# Altium schematic symbol library Discrete_Capacitor.SchLib: 76 symbols
Pins are listed as number, name and electrical type; pins without a type are passive.

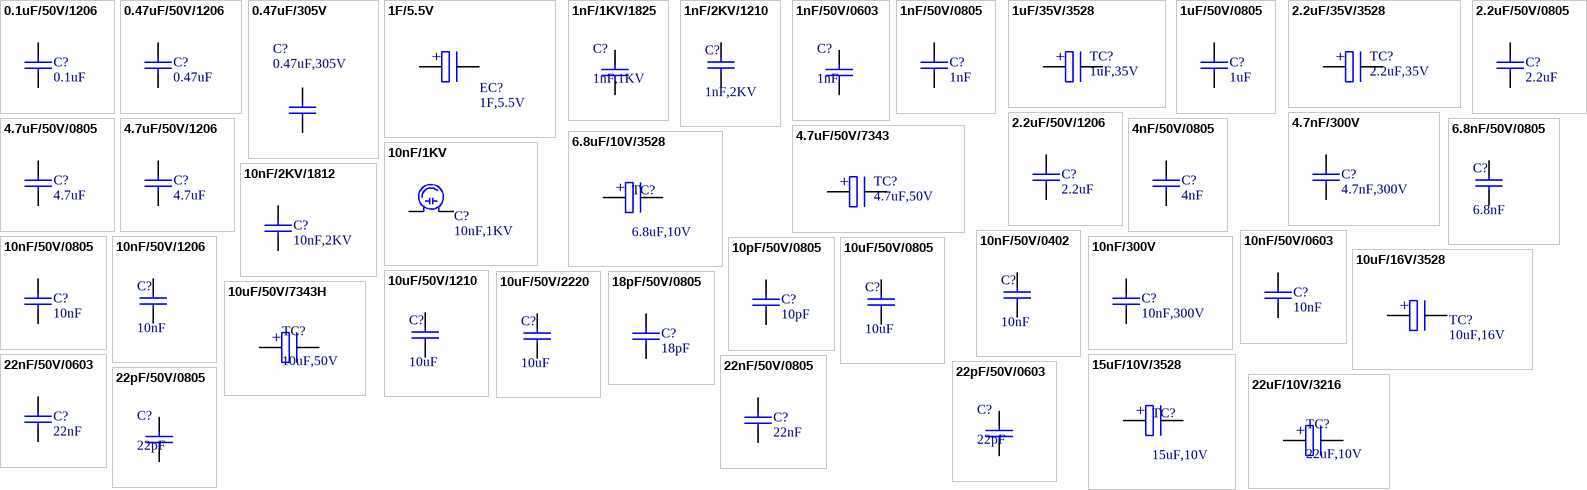
[diagram p0: symbols 0.1uF/50V/1206 to 22uF/10V/3216]

## 0.1uF/50V/1206
designator C?, comment 0.1uF
普通电容, 0.1uF, X7R, 50V, 10％, 1206; Manufacturer: TDK; Name: 普通电容; Ordering NO.: 0.1uF
footprint C1206 (Chip Capacitor, Body 3.2x1.6mm, IPC Medium Density)
pins: 1, 2

## 0.47uF/50V/1206
designator C?, comment 0.47uF
普通电容, 0.47uF, X7R, 50V, 10％, 1206; Manufacturer: TDK; Name: 普通电容; Ordering NO.: 0.47uF
footprint C1206 (Chip Capacitor, Body 3.2x1.6mm, IPC Medium Density)
pins: 1, 2

## 0.47uF/305V
designator C?, comment 0.47uF,305V
安规电容-X电容,0.47uF,305VAC,直插; Manufacturer: Epcos; Ordering NO.: B32933B3474K; Name: 安规电容- X电容
footprint CAP-22.5
pins: 1, 2

## 1F/5.5V
designator EC?, comment 1F,5.5V
铝电解电容,1F,20%,5.5V,直插; Manufacturer: KAMCAP; Ordering NO.: SCCB5R5105C; Name: 铝电解电容
footprint CAPC-5.08 (超级电容直插封装,直径800mil,pitch=200mil)
pins: 1 P, 2 P
text: +

## 1nF/1KV/1825
designator C?, comment 1nF,1KV
高压电容, 1nF, 10%, 1KV, 1825, C0G; Manufacturer: AVX; tips: 地线间EMC电容,体积大; 物料替代型号: 1825AC102JAT1A(5%); Ordering NO.: 1825AC102KAT1A; Tips: 1825,1000V,C0G,10%,有铅,; Name: 高压电容; Price: 0.51
footprint C1825 (贴片电容1825, 180 x 250 mil)
pins: 1, 2

## 1nF/2KV/1210
designator C?, comment 1nF,2KV
高压电容, 1nF, X7R, 2KV, 10％, 1210; Manufacturer: Syfer Technology; Ordering NO.: 1210Y2K00102KXT; Name: 高压电容
footprint C1210 (公制名称为3225)
pins: 1, 2

## 1nF/50V/0603
designator C?, comment 1nF
高频电容, 1nF, 5%, 50V, 0603, C0G; Manufacturer: AVX; Ordering NO.: 06035A102JAT2A; tips: 贴片0603,102%5/50V,C0G; 物料替代型号: 村田; Tips: 虽为高频电容,做EMC也是不错的; Name: 高频电容; Price: 0.02
footprint C0603 (Chip Capacitor, Body 1.6x0.8mm, IPC Medium Density)
pins: 1, 2

## 1nF/50V/0805
designator C?, comment 1nF
普通电容, 1nF, X7R, 50V, 10％, 0805; Manufacturer: TDK; Ordering NO.: 1nF; Name: 普通电容
footprint C0805 (Chip Capacitor, Body 2.0x1.3mm, IPC Medium Density)
pins: 1, 2

## 1uF/35V/3528
designator TC?, comment 1uF,35V
钽电容, 1uF, 35V, 10％, 3528; Manufacturer: AVX; Name: 钽电容; Ordering NO.: 1uF
footprint C3528 (B,Chip Capacitor, Body 3.5x2.8mm)
pins: 1 P, 2 P
text: +

## 1uF/50V/0805
designator C?, comment 1uF
普通电容, 1uF, X7R, 50V, 10％, 0805; Manufacturer: TDK; Ordering NO.: 1uF; Name: 普通电容
footprint C0805 (Chip Capacitor, Body 2.0x1.3mm, IPC Medium Density)
pins: 1, 2

## 2.2uF/35V/3528
designator TC?, comment 2.2uF,35V
钽电容, 2.2uF, 35V, 10％, 3528; Manufacturer: AVX; Name: 钽电容; Ordering NO.: 2.2uF
footprint C3528 (B,Chip Capacitor, Body 3.5x2.8mm)
pins: 1 P, 2 P
text: +

## 2.2uF/50V/0805
designator C?, comment 2.2uF
普通电容, 2.2uF, X7R, 50V, 10％, 0805; Manufacturer: TDK; Name: 普通电容; Ordering NO.: 2.2uF
footprint C0805 (Chip Capacitor, Body 2.0x1.3mm, IPC Medium Density)
pins: 1, 2

## 2.2uF/50V/1206
designator C?, comment 2.2uF
普通电容, 2.2uF, X7R, 50V, 10％, 1206; Manufacturer: TDK; Name: 普通电容; Ordering NO.: 2.2uF
footprint C1206 (Chip Capacitor, Body 3.2x1.6mm, IPC Medium Density)
pins: 1, 2

## 4.7nF/300V
designator C?, comment 4.7nF,300V
安规电容-Y电容,4.7nF,300V,10%,直插; Manufacturer: Epcos; Ordering NO.: B32021A3472K; Tips: 薄膜电容，用于EMI抑制; Name: 安规电容-Y电容
footprint CAP-10 (长*宽为13*5)
pins: 1, 2

## 4.7uF/50V/0805
designator C?, comment 4.7uF
普通电容, 4.7uF, X7R, 50V, 10％, 0805; Manufacturer: TDK; Name: 普通电容; Ordering NO.: 4.7uF
footprint C0805 (Chip Capacitor, Body 2.0x1.3mm, IPC Medium Density)
pins: 1, 2

## 4.7uF/50V/1206
designator C?, comment 4.7uF
普通电容, 4.7uF, X7R, 50V, 10％, 1206; Manufacturer: TDK; Name: 普通电容; Ordering NO.: 4.7uF
footprint C1206
pins: 1, 2

## 4.7uF/50V/7343
designator TC?, comment 4.7uF,50V
钽电容, 4.7uF, 50V, 10％, 7343; Manufacturer: AVX; Name: 钽电容; Ordering NO.: 4.7uF
footprint C7343 (D,Chip Capacitor, Body7.3x4.3mm)
pins: 1 P, 2 P
text: +

## 4nF/50V/0805
designator C?, comment 4nF
普通电容, 4nF, X7R, 50V, 10％, 0805; Manufacturer: TDK; Name: 普通电容; Ordering NO.: 4nF
footprint C0805 (Chip Capacitor, Body 2.0x1.3mm, IPC Medium Density)
pins: 1, 2

## 6.8nF/50V/0805
designator C?, comment 6.8nF
普通电容, 6.8nF, X7R, 50V, 10％, 0805; Manufacturer: TDK; Ordering NO.: 6.8nF; Name: 普通电容
footprint C0805
pins: 1, 2

## 6.8uF/10V/3528
designator TC?, comment 6.8uF,10V
钽电容, 6.8uF,10V, 10％, 3528; Manufacturer: AVX; Ordering NO.: TPSB685K010R1300; Name: 钽电容
footprint C3528 (B封装,极性电容, Body 3.5x2.8mm)
pins: 1 P, 2 P
text: +

## 10nF/1KV
designator C?, comment 10nF,1KV
高压瓷片电容, 10nF, 1000V,直插; Manufacturer: TDK; Tips: 高压瓷片电容10nF/1KV; Name: 高压瓷片电容; 物料替代型号: n/a; Ordering NO.: 10nF; Price: 0.8
footprint CAP-5 (Footprint not found)
pins: 1, 2

## 10nF/2KV/1812
designator C?, comment 10nF,2KV
高压电容, 10nF, 2KV, 1812; Manufacturer: AVX; Ordering NO.: 1812GC103KAT3A; Name: 高压电容
footprint C1812 (Chip Capacitor, 2-Leads, Body 4.5x3.2mm, IPC Medium Density)
pins: 1, 2

## 10nF/50V/0402
designator C?, comment 10nF
普通电容, 10nF, X7R, 50V, 10％, 0402; Manufacturer: TDK; Ordering NO.: 10nF; Name: 普通电容
footprint C0402-BGA
pins: 1, 2

## 10nF/50V/0603
designator C?, comment 10nF
普通电容, 10nF, X7R, 50V, 10％, 0603; Manufacturer: TDK; Ordering NO.: 10nF; Name: 普通电容
footprint C0603 (Chip Capacitor, Body 1.6x0.8mm, IPC Medium Density)
pins: 1, 2

## 10nF/50V/0805
designator C?, comment 10nF
普通电容, 10nF, X7R, 50V, 10％, 0805; Manufacturer: TDK; Ordering NO.: 10nF; Name: 普通电容
footprint C0805 (Chip Capacitor, Body 2.0x1.3mm, IPC Medium Density)
pins: 1, 2

## 10nF/50V/1206
designator C?, comment 10nF
普通电容, 10nF, X7R, 50V, 10％, 1206; Manufacturer: TDK; Name: 普通电容; Ordering NO.: 10nF
footprint C1206 (Chip Capacitor, Body 3.2x1.6mm, IPC Medium Density)
pins: 1, 2

## 10nF/300V
designator C?, comment 10nF,300V
安规电容-Y电容,10nF,300V,10%,直插; Manufacturer: Epcos; Ordering NO.: B32022A3103K; Tips: 薄膜电容，用于EMI抑制; Name: 安规电容-Y电容
footprint CAP-15 (长*宽*高为18*5*10.5)
pins: 1, 2

## 10pF/50V/0805
designator C?, comment 10pF
普通电容, 10pF, X7R, 50V, 10％, 0805; Manufacturer: TDK; Name: 普通电容; Ordering NO.: 10pF
footprint C0805 (Chip Capacitor, Body 2.0x1.3mm, IPC Medium Density)
pins: 1, 2

## 10uF/16V/3528
designator TC?, comment 10uF,16V
钽电容, 10uF, 16V, 10％, 3528; Manufacturer: AVX; Ordering NO.: TPSB106K016R0500; Name: 钽电容
footprint C3528 (B,Chip Capacitor, Body 3.5x2.8mm)
pins: 1 P, 2 P
text: +

## 10uF/50V/0805
designator C?, comment 10uF
普通电容, 10uF, X7R, 50V, 10％, 0805; Manufacturer: TDK; Name: 普通电容; Ordering NO.: 10uF
footprint C0805 (Chip Capacitor, Body 2.0x1.3mm, IPC Medium Density)
pins: 1, 2

## 10uF/50V/1210
designator C?, comment 10uF
普通电容, 10uF, X7S, 50V, 10％, 1210; Manufacturer: TDK; Ordering NO.: C3225X7S1H106KT000N; Name: 普通电容
footprint C1210 (贴片电容有极性1210,138x110mil)
pins: 1, 2

## 10uF/50V/2220
designator C?, comment 10uF
普通电容, 10uF, X7R, 50V, 10％, 2220; Manufacturer: TDK; Name: 普通电容; Ordering NO.: 10uF
footprint C2220
pins: 1, 2

## 10uF/50V/7343H
designator TC?, comment 10uF,50V
钽电容, 10uF, 50V, 7343H; Manufacturer: AVX; Ordering NO.: TPSE106M050R0500; Tips: 贴片极性去耦滤波电容,2917,E型,10uF%20/50V,500mR@100KHz,(钽/电解); 物料替代型号: TPSE106M050R0400,村田; Name: 钽电容; Price: 2.01
footprint C7343H (E封装,极性电容, Body7.3x4.3mm)
pins: 1 P, 2 P
text: +

## 15uF/10V/3528
designator TC?, comment 15uF,10V
钽电容, 15uF,10V, 10％, 3528; Manufacturer: AVX; Ordering NO.: TPSB156K010R0450; Name: 钽电容
footprint C3528 (B封装,极性电容, Body 3.5x2.8mm)
pins: 1 P, 2 P
text: +

## 18pF/50V/0805
designator C?, comment 18pF
普通电容, 18pF, X7R, 50V, 10％, 0805; Manufacturer: TDK; Name: 普通电容; Ordering NO.: 18pF
footprint C0805 (Chip Capacitor, Body 2.0x1.3mm, IPC Medium Density)
pins: 1, 2

## 22nF/50V/0603
designator C?, comment 22nF
普通电容, 22nF, X7R, 50V, 10％, 0603; Manufacturer: TDK; Name: 普通电容; Ordering NO.: 22nF
footprint C0603 (Chip Capacitor, Body 1.6x0.8mm, IPC Medium Density)
pins: 1, 2

## 22nF/50V/0805
designator C?, comment 22nF
普通电容, 22nF, X7R, 50V, 10％, 0805; Manufacturer: TDK; Name: 普通电容; Ordering NO.: 22nF
footprint C0805 (Chip Capacitor, Body 2.0x1.3mm, IPC Medium Density)
pins: 1, 2

## 22pF/50V/0603
designator C?, comment 22pF
高频电容, 22pF, 50V, 0603, C0G; Manufacturer: AVX; Ordering NO.: 06035A220JAT2A; tips: 贴片0603,22pF%5/50V,C0G; 物料替代型号: 村田; Tips: 虽为高频电容,做EMC也是不错的; Name: 高频电容; Price: 0.02
footprint C0603 (Chip Capacitor, Body 1.6x0.8mm, IPC Medium Density)
pins: 1, 2

## 22pF/50V/0805
designator C?, comment 22pF
高频电容, 22pF, 50V, 0805, C0G; Manufacturer: AVX; Ordering NO.: 08055A220JAT2A; 物料替代型号: 村田; tips: 虽为高频电容,做EMC也是不错的; Tips: 贴片0805,22pF%5/50V,C0G; Name: 高频电容; Price: 0.02
footprint C0805 (Chip Capacitor, Body 2.0x1.3mm, IPC Medium Density)
pins: 1, 2

## 22uF/10V/3216
designator TC?, comment 22uF,10V
钽电容, 22uF, 10V, 3216, 900mR@100KH; Manufacturer: AVX; Ordering NO.: TPSA226K010R0900; Tips: 贴片极性去耦滤波电容1206,22uF%10/10V,900mR@100KHz,(钽/电解); 物料替代型号: TPSA336K010R0700,村田; Name: 钽电容; Price: 0.20
footprint C3216 (A封装,极性电容, Body 3.2x1.6mm)
pins: 1 P, 2 P
text: +

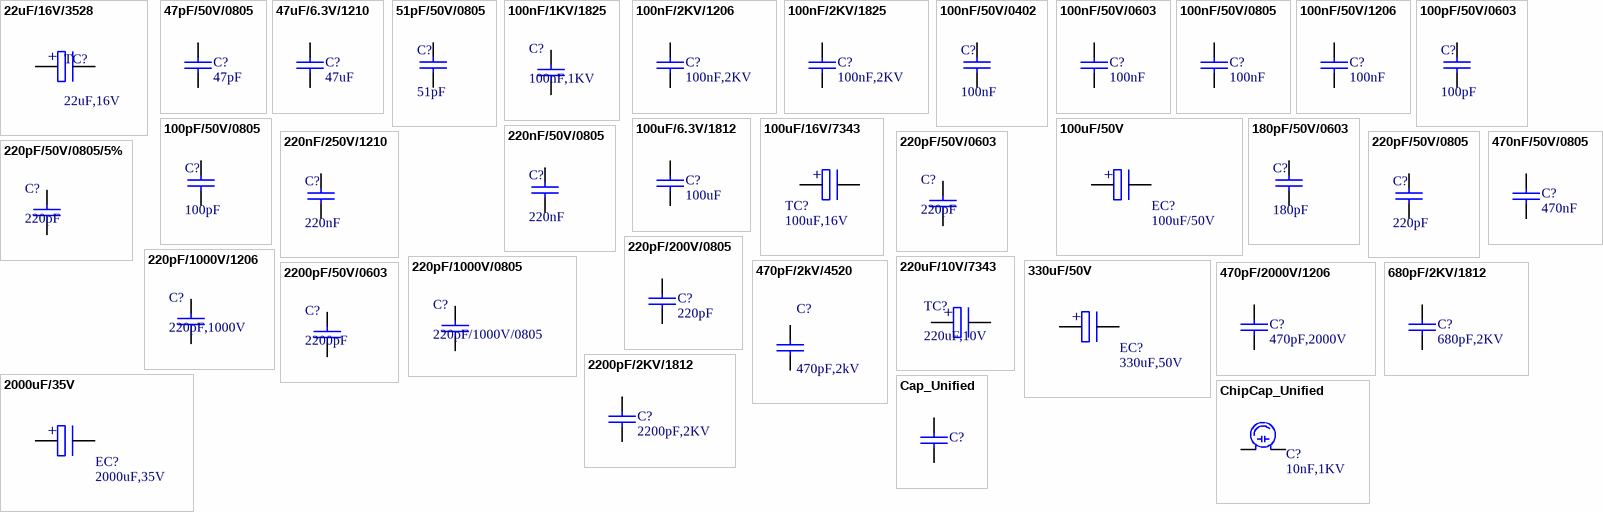
[diagram p1: symbols 22uF/16V/3528 to ChipCap_Unified]

## 22uF/16V/3528
designator TC?, comment 22uF,16V
钽电容,22uF,16V, 10％, 3528; Manufacturer: AVX; Ordering NO.: TPSB226K016R0400; Name: 钽电容
footprint C3528 (B封装,极性电容, Body 3.5x2.8mm)
pins: 1 P, 2 P
text: +

## 47pF/50V/0805
designator C?, comment 47pF
普通电容, 47pF, X7R, 50V, 10％, 0805; Manufacturer: TDK; Name: 普通电容; Ordering NO.: 47pF
footprint C0805 (Chip Capacitor, Body 2.0x1.3mm, IPC Medium Density)
pins: 1, 2

## 47uF/6.3V/1210
designator C?, comment 47uF
普通电容, 47uF, X5R, 6.3V, 1210; Manufacturer: TDK; Name: 普通电容; Ordering NO.: 47uF
footprint C1210 (公制名称为3225)
pins: 1, 2

## 51pF/50V/0805
designator C?, comment 51pF
普通电容, 51pF, X7R, 50V, 10％, 0805; Manufacturer: TDK; Name: 普通电容; Ordering NO.: 51pF
footprint C0805 (Chip Capacitor, Body 2.0x1.3mm, IPC Medium Density)
pins: 1, 2

## 100nF/1KV/1825
designator C?, comment 100nF,1KV
高压电容, 100nF, 10%, 1000V, 1825, C0G, 有铅; Manufacturer: AVX; tips: 地线间EMC电容,体积大; 物料替代型号: 1825AC104JAT1A(5%); Ordering NO.: 1825AC104KAT1A; Tips: 1825,1000V,C0G,10%,有铅,; Name: 高压电容; Price: 0.51
footprint C1825 (贴片电容1825, 180 x 250 mil)
pins: 1, 2

## 100nF/2KV/1206
designator C?, comment 100nF,2KV
高压电容, 100nF, 2KV, 10％, 1206; Manufacturer: TDK; Ordering NO.: CGA5L4X7T2W104K160AA; Name: 高压电容
footprint C1206 (Chip Capacitor, Body 3.2x1.6mm, IPC Medium Density)
pins: 1, 2

## 100nF/2KV/1825
designator C?, comment 100nF,2KV
高压电容, 100nF, 2KV, 10％, 1825; Manufacturer: TDK; Name: 高压电容; Ordering NO.: 100nF
footprint C1825 (贴片电容1825, 180 x 250 mil)
pins: 1, 2

## 100nF/50V/0402
designator C?, comment 100nF
普通电容, 100nF, X7R, 50V, 10％, 0402; Manufacturer: TDK; Ordering NO.: 100nF; Name: 普通电容
footprint C0402-BGA
pins: 1, 2

## 100nF/50V/0603
designator C?, comment 100nF
普通电容, 100nF, X7R, 50V, 10％, 0603; Manufacturer: TDK; Ordering NO.: 100nF; Name: 普通电容
footprint C0603
pins: 1, 2

## 100nF/50V/0805
designator C?, comment 100nF
普通电容, 100nF, X7R, 50V, 10％, 0805; Manufacturer: TDK; Ordering NO.: 100nF; Name: 普通电容
footprint C0805 (Chip Capacitor, Body 2.0x1.3mm, IPC Medium Density)
pins: 1, 2

## 100nF/50V/1206
designator C?, comment 100nF
普通电容, 100nF, X7R, 50V, 10％, 1206; Manufacturer: TDK; Name: 普通电容; Ordering NO.: 100nF
footprint C1206 (Chip Capacitor, Body 3.2x1.6mm, IPC Medium Density)
pins: 1, 2

## 100pF/50V/0603
designator C?, comment 100pF
普通电容, 100pF, X7R, 50V, 10％, 0603; Manufacturer: TDK; Ordering NO.: 100pF; Name: 普通电容
footprint C0603
pins: 1, 2

## 100pF/50V/0805
designator C?, comment 100pF
普通电容, 100pF, X7R, 50V, 10％, 0805; Manufacturer: TDK; Ordering NO.: 100pF; Name: 普通电容
footprint C0805 (Chip Capacitor, Body 2.0x1.3mm, IPC Medium Density)
pins: 1, 2

## 100uF/6.3V/1812
designator C?, comment 100uF
普通电容, 100uF, X5R, 6.3V, 1812; Manufacturer: TDK; Name: 普通电容; Ordering NO.: 100uF
footprint C1812
pins: 1, 2

## 100uF/16V/7343
designator TC?, comment 100uF,16V
钽电容, 100uF, 16V, 10%,7343; Manufacturer: AVX; Ordering NO.: TPSD107K016R0060; Name: 钽电容
footprint C7343 (D,Chip Capacitor, Body7.3x4.3mm)
pins: 1 P, 2 P
text: +

## 100uF/50V
designator EC?
铝电解电容,100uF,20%,50V,表贴; Manufacturer: Panasonic; Ordering NO.: EEHZA1H101P; Name: 铝电解电容
footprint CP1210 (G,Conductive Polymer Hybrid Aluminum Electrolytic Capacitors,12X10.3X10.5mm)
pins: 1 P, 2 P
text: +

## 180pF/50V/0603
designator C?, comment 180pF
普通电容,180pF, 5％,50V, 0603,C0G; Manufacturer: TDK; Name: 普通电容; Ordering NO.: 180pF
footprint C0603 (Chip Capacitor, Body 1.6x0.8mm, IPC Medium Density)
pins: 1, 2

## 220nF/50V/0805
designator C?, comment 220nF
普通电容, 220nF, X7R, 50V, 10％, 0805; Manufacturer: TDK; Name: 普通电容; Ordering NO.: 220nF
footprint C0805 (Chip Capacitor, Body 2.0x1.3mm, IPC Medium Density)
pins: 1, 2

## 220nF/250V/1210
designator C?, comment 220nF
普通电容, 220nF, X5R, 250V, 10％, 1210; Manufacturer: TDK; Name: 普通电容; Ordering NO.: 220nF
footprint C1210 (公制名称为3225)
pins: 1, 2

## 220pF/50V/0603
designator C?, comment 220pF
高频电容, 220pF, 5%, 50V, 0603, C0G; Manufacturer: AVX; Ordering NO.: 06035A221JAT2A; tips: 贴片0603,220pF%5/50V,C0G; 物料替代型号: 村田; Tips: 虽为高频电容,做EMC也是不错的; Name: 高频电容; Price: 0.02
footprint C0603 (Chip Capacitor, Body 1.6x0.8mm, IPC Medium Density)
pins: 1, 2

## 220pF/50V/0805
designator C?, comment 220pF
普通电容, 220pF, X7R, 50V, 10％, 0805; Manufacturer: TDK; Name: 普通电容; Ordering NO.: 220pF
footprint C0805 (Footprint not found)
pins: 1, 2

## 220pF/50V/0805/5%
designator C?, comment 220pF
高频电容, 220pF, 5%, 50V, 0805, C0G; Manufacturer: AVX; Ordering NO.: 08055A221JAT2A; tips: 贴片0805,220pF%5/50V,C0G; 物料替代型号: 村田; Tips: 虽为高频电容,做EMC也是不错的; Name: 高频电容; Price: 0.02
footprint C0805 (Chip Capacitor, Body 2.0x1.3mm, IPC Medium Density)
pins: 1, 2

## 220pF/200V/0805
designator C?, comment 220pF
高频电容, 220pF, 5%, 200V, 0805, C0G; Manufacturer: AVX; Ordering NO.: 08052A221JAT2A; tips: 贴片0805,220pF%5/200V,C0G; 物料替代型号: 村田; Tips: 虽为高频电容,做EMC也是不错的; Name: 高频电容; Price: 0.02
footprint C0805 (Chip Capacitor, Body 2.0x1.3mm, IPC Medium Density)
pins: 1, 2

## 220pF/1000V/0805
designator C?
高压电容, 220pF, X7R, 5%, 1000V, 0805; Manufacturer: AVX; Ordering NO.: 0805AA221JAT1A; Tips: 小型220pF EMC电容; Price: 0.50; Name: 高压电容
footprint C0805 (Chip Capacitor, Body 2.0x1.3mm, IPC Medium Density)
pins: 1, 2

## 220pF/1000V/1206
designator C?, comment 220pF,1000V
高压电容, 220pF, X7R, 5%, 1000V, 1206; Manufacturer: AVX; 物料替代型号: 1206AA221JAT1A; Tips: EMC电容,体积大; Price: 0.50; Name: 高压电容; Ordering NO.: 220pF
footprint C1206 (Chip Capacitor, Body 3.2x1.6mm, IPC Medium Density)
pins: 1, 2

## 220uF/10V/7343
designator TC?, comment 220uF,10V
钽电容, 220uF, 20％, 10V, 7343; Manufacturer: SANYO/Panasonic; Ordering NO.: 10TPB220M; Tips: 电源用极性电容; Name: 钽电容
footprint C7343 (D封装,极性电容, Body7.3x4.3mm)
pins: 1 P, 2 N
text: +

## 330uF/50V
designator EC?, comment 330uF,50V
铝电解电容,330uF,20%,50V,直插; Manufacturer: Panasonic; Ordering NO.: EEUTA1H331S; Name: 铝电解电容
footprint CAPC-7.5-D16 (Body Dia. 16mm,Lead space 7.5mm)
pins: 1 P, 2 P
text: +

## 470nF/50V/0805
designator C?, comment 470nF
普通电容, 470nF, X7R, 50V, 10％, 0805; Manufacturer: TDK; Name: 普通电容; Ordering NO.: 470nF
footprint C0805
pins: 1, 2

## 470pF/2kV/4520
designator C?, comment 470pF,2kV
高压电容,470pF,2kV,4520; Ordering NO.: GR442QR73D471KW01L; Name: 高压电容
footprint C4520 (Chip Capacitor, Body 4.5x2.0mm)
pins: 1, 2

## 470pF/2000V/1206
designator C?, comment 470pF,2000V
高压电容, 470pF, 2000V, 1206; Manufacturer: Muiticomp; Ordering NO.: MCA000784; Name: 高压电容
footprint C1206 (Chip Capacitor, Body 3.2x1.6mm, IPC Medium Density)
pins: 1, 2

## 680pF/2KV/1812
designator C?, comment 680pF,2KV
高压电容, 680pF,2KV, 1812; Manufacturer: AVX; Ordering NO.: 1812GC681KAT1A; Name: 高压电容
footprint C1812
pins: 1, 2

## 2000uF/35V
designator EC?, comment 2000uF,35V
铝电解电容,2000uF,20%,35V,直插; Manufacturer: Panasonic; Ordering NO.: EEUTP1V202S; Name: 铝电解电容
footprint CAPC-7.5-D18 (Body Dia. 18mm,Lead space 7.5mm)
pins: 1 P, 2 P
text: +

## 2200pF/2KV/1812
designator C?, comment 2200pF,2KV
高压电容, 2200pF, 2KV, 1812; Manufacturer: AVX; Ordering NO.: 1812GC222KAT1A; Name: 高压电容
footprint C1812
pins: 1, 2

## 2200pF/50V/0603
designator C?, comment 2200pF
高频电容, 2200pF, 5%, 50V, 0603, C0G; Manufacturer: AVX; Ordering NO.: 06035A221JAT2A; tips: 贴片0603,221%5/50V,C0G; 物料替代型号: 村田; Tips: 虽为高频电容,做EMC也是不错的; Name: 高频电容; Price: 0.02
footprint C0603 (Chip Capacitor, Body 1.6x0.8mm, IPC Medium Density)
pins: 1, 2

## Cap_Unified
designator C?
普通电容,通用; Price: 0.02; Name: 普通电容
footprint C0805 (Chip Capacitor, Body 2.0x1.3mm, IPC Medium Density)
footprint C0603 (Chip Capacitor, Body 1.6x0.8mm, IPC Medium Density)
footprint C0402 (Footprint not found)
footprint C1206 (Chip Capacitor, Body 3.2x1.6mm, IPC Medium Density)
pins: 1, 2

## ChipCap_Unified
designator C?, comment 10nF,1KV
瓷片电容; Price: 0.8
footprint CAP-7.62 (Footprint not found)
pins: 1, 2